# EAGLE library part LCD-TFT-2.8"-HY28A (library chiptron_petus_cz)
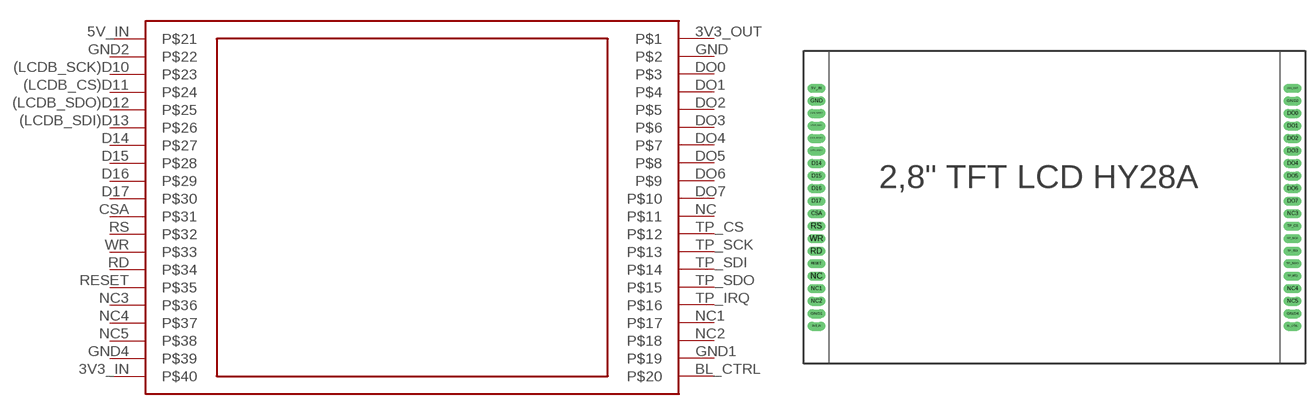
[diagram p2: symbol with the pads of LCD-TFT-2.8"-HY28A; footprint LCD-TFT-2.8"-HY28A]

Designator prefix -

## LCD-TFT-2.8"-HY28A  [LCD-TFT-2.8"-HY28A]
3V3_IN  P$40
3V3_OUT  P$1
5V_IN  P$21
(LCDB_CS)D11  P$24
(LCDB_SCK)D10  P$23
(LCDB_SDI)D13  P$26
(LCDB_SDO)D12  P$25
BL_CTRL  P$20
CSA  P$31
D14  P$27
D15  P$28
D16  P$29
D17  P$30
DO0  P$3
DO1  P$4
DO2  P$5
DO3  P$6
DO4  P$7
DO5  P$8
DO6  P$9
DO7  P$10
GND  P$2
GND1  P$19
GND2  P$22
GND4  P$39
NC  P$11
NC1  P$17
NC2  P$18
NC3  P$36
NC4  P$37
NC5  P$38
RD  P$34
RESET  P$35
RS  P$32
TP_CS  P$12
TP_IRQ  P$16
TP_SCK  P$13
TP_SDI  P$14
TP_SDO  P$15
WR  P$33

## Footprint LCD-TFT-2.8"-HY28A (pad centres in mm)
drill 0.8 pad 1.422 long: 3V3_IN -38,-20; 3V3_OUT 38,18; 5V_IN -38,18; (LCDB_CS)D11 -38,12; (LCDB_SCK)D10 -38,14; (LCDB_SDI)D13 -38,8; (LCDB_SDO)D12 -38,10; BL_CTRL 38,-20; CSA -38,-2; D14 -38,6; D15 -38,4; D16 -38,2; D17 -38,0; DO0 38,14; DO1 38,12; DO2 38,10; DO3 38,8; DO4 38,6; DO5 38,4; DO6 38,2; DO7 38,0; GND -38,16; GND1 -38,-18; GND2 38,16; GND4 38,-18; NC -38,-12; NC1 -38,-14; NC2 -38,-16; NC3 38,-2; NC4 38,-14; NC5 38,-16; RD -38,-8; RESET -38,-10; RS -38,-4; TP_CS 38,-4; TP_IRQ 38,-12; TP_SCK 38,-6; TP_SDI 38,-8; TP_SDO 38,-10; WR -38,-6